# Altium footprint library SMD_2pins.PcbLib: 13 footprints
Each footprint in its own frame and in the unit in brackets; x right, y up, seen from the top. Pads: shape width x height; smd on the part's side, far side on the other; paste and mask are expansions set on the pad; w line width, h text height; cw(c..) or ccw(c..) is an arc to the next point about the centre after c.
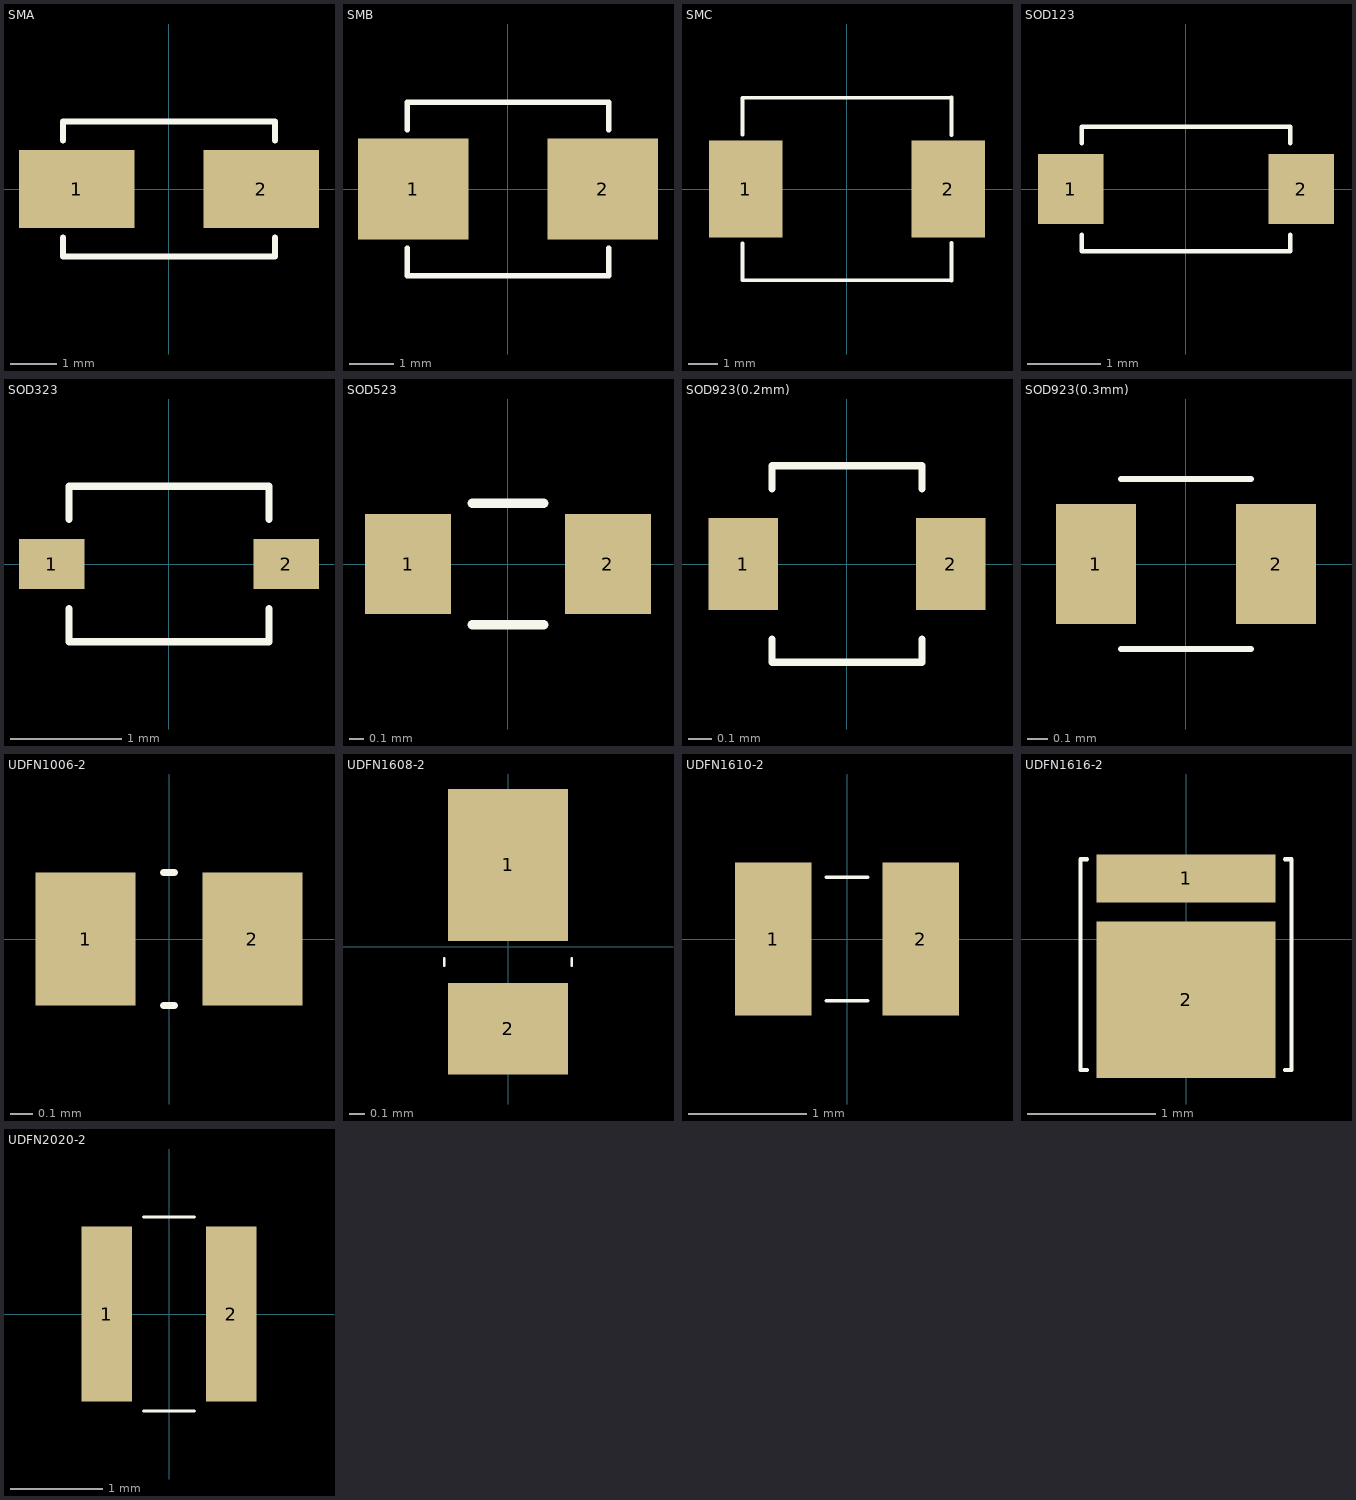
[diagram p0: the footprints below, top view; thin cyan lines are the x and y axes]

## SMA [mm]
pads (2):
  rect 2.5x1.7 smd mask+0.102: 1(-2,0) 2(2,0)
Top Overlay:
  lines w0.127: -2.3,-1.054 -2.3,-1.46 2.3,-1.46 2.3,-1.054 ; -2.3,1.054 -2.3,1.46 2.3,1.46 2.3,1.054
3D body "SMA.step": height 2.2, standoff 0, extent -2.598,-1.302 2.598,1.302

## SMB [mm]
pads (2):
  rect 2.5x2.3 smd mask+0.102: 1(-2.15,0) 2(2.15,0)
Top Overlay:
  lines w0.127: -2.285,-1.34 -2.285,-1.97 2.285,-1.97 2.285,-1.34 ; -2.285,1.34 -2.285,1.97 2.285,1.97 2.285,1.34
3D body "SMB.step": height 2.2, standoff 0, extent -2.648,-1.81 2.648,1.81

## SMC [mm]
pads (2):
  rect 2.5x3.3 smd mask+0.102: 1(-3.45,0) 2(3.45,0)
Top Overlay:
  lines w0.127: -3.555,-3.091 3.555,-3.102 3.555,-1.834 ; -3.555,-3.089 -3.555,-1.844 ; -3.555,1.855 -3.555,3.1 ; -3.555,3.102 3.555,3.113 3.555,1.845
3D body "SMC.step": height 2.27, standoff 0, extent -3.97,-2.953 3.97,2.953

## SOD123 [mm]
pads (2):
  rect 0.9x0.95 smd mask+0.102: 1(-1.575,0) 2(1.575,0)
Top Overlay:
  lines w0.064: -1.425,-0.625 -1.425,-0.85 1.425,-0.85 1.425,-0.625 ; -1.425,0.625 -1.425,0.85 1.425,0.85 1.425,0.625
3D body "SOD-123.step": height 1.36, standoff 0, extent -1.925,-0.85 1.925,0.85

## SOD323 [mm]
pads (2):
  rect 0.59x0.45 smd mask+0.102: 1(-1.055,0) 2(1.055,0)
Top Overlay:
  lines w0.064: -0.9,-0.4 -0.9,-0.7 0.9,-0.7 0.9,-0.4 ; -0.9,0.4 -0.9,0.7 0.9,0.7 0.9,0.4
3D body "SOD-323.step": height 1.16, standoff 0, extent -1.425,-0.75 1.425,0.75

## SOD523 [mm]
pads (2):
  rect 0.6x0.7 smd mask+0.102: 1(-0.7,0) 2(0.7,0)
Top Overlay:
  lines w0.064: -0.25,-0.425 0.25,-0.425 ; -0.25,0.425 0.25,0.425
3D body "SOD-523.step": height 0.76, standoff 0, extent -0.85,-0.45 0.85,0.45

## SOD923(0.2mm) [mm]
pads (2):
  rect 0.3x0.4 smd mask+0.102: 1(-0.45,0) 2(0.45,0)
Top Overlay:
  lines w0.032: -0.325,-0.325 -0.325,-0.425 0.325,-0.425 0.325,-0.325 ; -0.325,0.325 -0.325,0.425 0.325,0.425 0.325,0.325
3D body "SOD-923 0.2mm Lead Width.step": height 0.44, standoff 0, extent -0.525,-0.325 0.525,0.325

## SOD923(0.3mm) [mm]
pads (2):
  rect 0.4x0.6 smd mask+0.102: 1(-0.45,0) 2(0.45,0)
Top Overlay:
  lines w0.032: -0.325,-0.425 0.325,-0.425 ; -0.325,0.425 0.325,0.425
3D body "SOD-923 0.3mm Lead Width.step": height 0.44, standoff 0, extent -0.525,-0.325 0.525,0.325

## UDFN1006-2 [mm]
pads (2):
  rect 0.45x0.6 smd mask+0.102: 1(-0.375,0) 2(0.375,0)
Top Overlay:
  lines w0.032: -0.025,-0.3 0.025,-0.3 ; -0.025,0.3 0.025,0.3
3D body "DFN1006-2.STEP": height 0.49, standoff -0.01, extent -0.5,-0.3 0.5,0.3

## UDFN1608-2 [mm]
pads (2):
  rect 0.8x1.01 smd mask+0.102: 1(0,0.545)
  rect 0.8x0.61 smd mask+0.102: 2(0,-0.545)
Top Overlay:
  lines w0.016: -0.425,-0.125 -0.425,-0.075 ; 0.425,-0.125 0.425,-0.075
3D body "DFN1608-2.stp": height 0.51, standoff 0.01, extent -0.4,-0.7 0.4,0.9

## UDFN1610-2 [mm]
pads (2):
  rect 0.65x1.3 smd mask+0.102: 1(-0.625,0) 2(0.625,0)
Top Overlay:
  lines w0.032: -0.175,-0.525 0.175,-0.525 ; -0.175,0.525 0.175,0.525
3D body "DFN1610B-2.stp": height 0.51, standoff 0.01, extent -0.8,-0.5 0.8,0.5

## UDFN1616-2 [mm]
pads (2):
  rect 1.4x0.375 smd mask+0.052: 1(0,0.475)
  rect 1.4x1.225 smd mask+0.052: 2(0,-0.475)
Top Overlay:
  lines w0.032: -0.775,-1.025 -0.825,-1.025 -0.825,0.625 -0.775,0.625 ; 0.775,-1.025 0.825,-1.025 0.825,0.625 0.775,0.625
3D body "DFN1616-2.stp": height 0.51, standoff 0.01, extent -0.8,-1 0.8,0.6

## UDFN2020-2 [mm]
pads (2):
  rect 0.55x1.9 smd mask+0.102: 1(-0.675,0) 2(0.675,0)
Top Overlay:
  lines w0.032: -0.275,-1.05 0.275,-1.05 ; -0.275,1.05 0.275,1.05
3D body "DFN2020-2.stp": height 0.59, standoff 0.01, extent -1,-1 1,1